# Altium footprint library H5120NLT.PcbLib: 1 footprints
Each footprint in its own frame and in the unit in brackets; x right, y up, seen from the top. Pads: shape width x height; smd on the part's side, far side on the other; paste and mask are expansions set on the pad; w line width, h text height; cw(c..) or ccw(c..) is an arc to the next point about the centre after c.
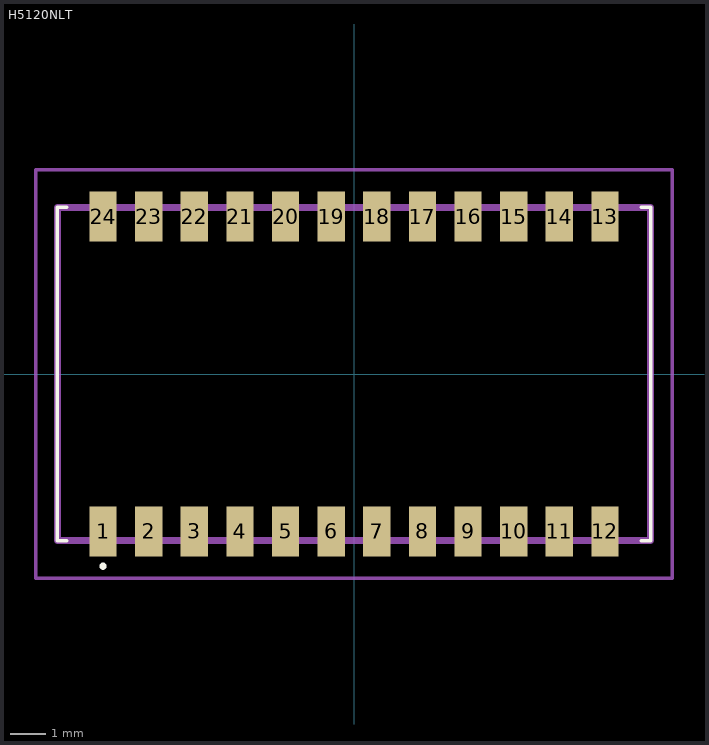
[diagram p0: the footprint, top view; thin cyan lines are the x and y axes]

## H5120NLT [mm]
pads (24):
  rect 0.76x1.395 smd: 1(-6.985,-4.383) 2(-5.715,-4.383) 3(-4.445,-4.383) 4(-3.175,-4.383) 5(-1.905,-4.383) 6(-0.635,-4.383) 7(0.635,-4.383) 8(1.905,-4.383) 9(3.175,-4.383) 10(4.445,-4.383) 11(5.715,-4.383) 12(6.985,-4.383) 13(6.985,4.383) 14(5.715,4.383) 15(4.445,4.383) 16(3.175,4.383) 17(1.905,4.383) 18(0.635,4.383) 19(-0.635,4.383) 20(-1.905,4.383) 21(-3.175,4.383) 22(-4.445,4.383) 23(-5.715,4.383) 24(-6.985,4.383)
Top Overlay:
  lines w0.1: -8,-4.635 -8.255,-4.635 -8.255,4.635 -8,4.635 ; 8,-4.635 8.255,-4.635 8.255,4.635 8,4.635 ; -6.985,-5.4 cw(c-6.985,-5.35) -6.985,-5.3 cw(c-6.985,-5.35) -6.985,-5.4
Mechanical 15:
  lines w0.2: -8.255,-4.635 8.255,-4.635 8.255,4.635 -8.255,4.635 -8.255,-4.635
Mechanical 20:
  lines w0.1: -8.855,-5.68 8.855,-5.68 8.855,5.68 -8.855,5.68 -8.855,-5.68
3D body "H5120NLT.stp": height 2.01, standoff -0.08, extent -8.23,-4.763 8.23,4.763